# Altium schematic symbol library 544UD13U3 VP.Schlib: 1 symbol
Pins are listed as number, name and electrical type; pins without a type are passive.

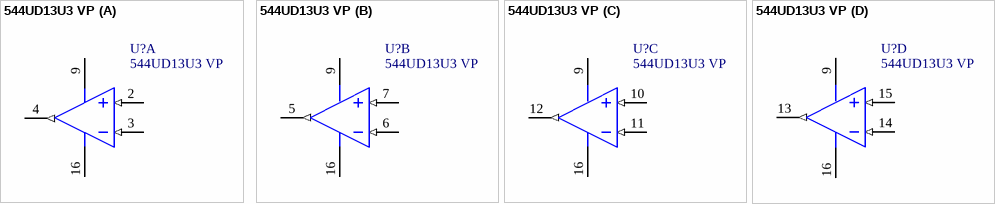
[diagram p0: symbol 544UD13U3 VP]

## 544UD13U3 VP
designator U?
Operational Amplifier; Назначение: Операционный усилитель; Наименование: 544УД13У3 "ВП"; Revision: 17-Jul-2002: Re-released for DXP Platform.
footprint u_SO-8
footprint Н04.16-1В
part A pins: 2 IN- (in), 3 IN+ (in), 4 OUT (out), 9 V+ (power), 16 V- (power)
part B pins: 5 OUT (out), 6 IN- (in), 7 IN+ (in), 9 V+ (power), 16 V- (power)
part C pins: 9 V+ (power), 10 IN+ (in), 11 IN- (in), 12 OUT (out), 16 V- (power)
part D pins: 9 V+ (power), 13 OUT (out), 14 IN- (in), 15 IN+ (in), 16 V- (power)